# Altium schematic symbol library SMLVT3V3.SchLib: 1 symbol
Pins are listed as number, name and electrical type; pins without a type are passive.

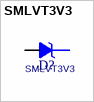
[diagram p0: symbol SMLVT3V3]

## SMLVT3V3
designator D?
footprint ST_SMB
pins: 1 K, 2 A